# EAGLE library part USB (library Explore Labs EAGLE Library)
USB Connectors USB-B-PTH is fully proven SKU : PRT-00139/CONN-08278 USB-miniB is fully proven SKU : PRT-00587 USB-A-PCB is untested. USB-A-H is throughly reviewed, but untested. Spark Fun Electronics SKU : PRT-00437 USB-B-SMT is throughly reviewed, but untested. Needs silkscreen touching up. USB-A-S has not been used/tested USB-MB-H has not been used/tested USB-MICROB has been used. CONN-09505
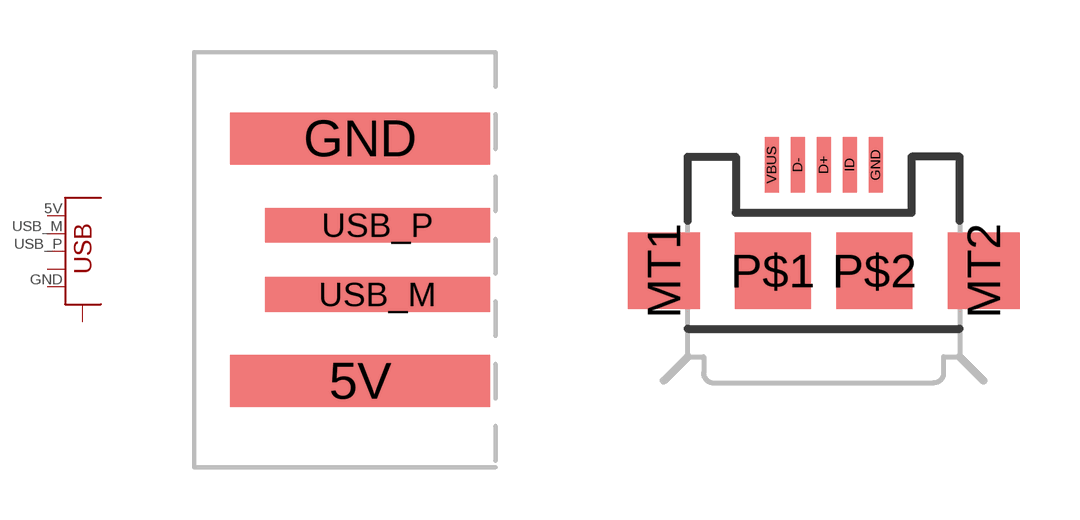
[diagram p21: symbol with the pads of USB-A-PCB; footprints USB-A-PCB, USB-MICROB]

Designator prefix JP

## USBPCB  [USB-A-PCB]
5V  VBUS
GND  GND
USB_M  D-
USB_P  D+

## USB-MICROB (PROD_ID: CONN-09505)  [USB-MICROB]
D+  D+
D-  D-
GND  GND
MT1  GND
MT2  GND
VBUS  VBUS

## USBSMD  [USB-MICROB-GCT-3080]
D+  D+
D-  D-
GND  GND
ID  ID
MT1  SHIELD
MT2  SHIELD
VBUS  VBUS

## USBSMD2  [USB-MICROAB-GCT-3090]
D+  D+
D-  D-
GND  GND
ID  ID
MT1  SHIELD
MT2  SHIELD
TAB1  SHIELD
TAB2  SHIELD
VBUS  VBUS

## Footprint USB-A-PCB (pad centres in mm)
Card-edge USB A connector. For boards designed to be plugged directly into a USB slot. If possible, ensure that your PCB is about 2.4mm thick to fit snugly.
smd 7.5 x 1.5: 5V -0.2,-3.5; GND -0.2,3.5
smd 6.5 x 1: USB_M 0.3,-1; USB_P 0.3,1

## Footprint USB-MICROB (pad centres in mm)
Micro USB Package
smd 0.35 x 1.4: D+ 0,2.65; D- -0.65,2.65; GND 1.3,2.65; ID 0.65,2.65; VBUS -1.3,2.65
smd 1.8 x 1.9: MT1 -4,0; MT2 4,0
smd 1.9 x 1.9: P$1 -1.27,0; P$2 1.27,0

## Footprint USB-MICROB-GCT-3080 (pad centres in mm)
smd 0.4 x 1.4: D+ 0,2.7; D- -0.65,2.7; GND 1.3,2.7; ID 0.65,2.7; VBUS -1.3,2.7
drill 1 pad 1.35 long: MT1 -2.825,0; MT2 2.825,0
hole 0.55 at -2,2.15
hole 0.55 at 2,2.15

## Footprint USB-MICROAB-GCT-3090 (pad centres in mm)
smd 0.4 x 1.4: D+ 0,2.55; D- -0.65,2.55; GND 1.3,2.55; ID 0.65,2.55; VBUS -1.3,2.55
drill 1 pad 1.35 long: MT1 -3.575,0; MT2 3.575,0
smd 1.9 x 2: TAB1 -1.2,0; TAB2 1.2,0